# Altium schematic symbol library Schlib2.SchLib: 5 symbols
Pins are listed as number, name and electrical type; pins without a type are passive.

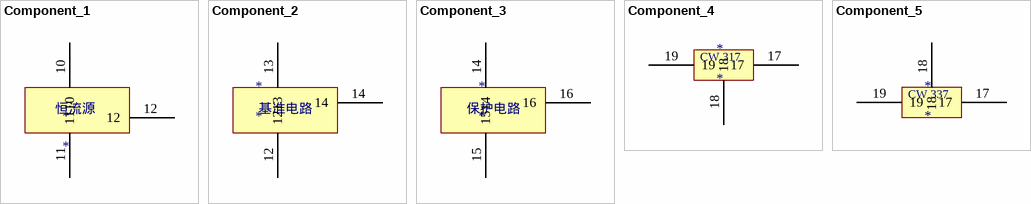
[diagram p0: symbols Component_1 to Component_5]

## Component_1
designator *
pins: 10, 11, 12
text: 恒流源

## Component_2
designator *
pins: 12, 13, 14
text: 基准电路

## Component_3
designator *
pins: 14, 15, 16
text: 保护电路

## Component_4
designator *
pins: 17, 18, 19
text: CW 317

## Component_5
designator *
pins: 17, 18, 19
text: CW 337